# Altium footprint library ecoVENTV_v1.1.PcbLib: 36 footprints (part 1 of 3)
Each footprint in its own frame and in the unit in brackets; x right, y up, seen from the top. Pads: shape width x height; smd on the part's side, far side on the other; paste and mask are expansions set on the pad; w line width, h text height; cw(c..) or ccw(c..) is an arc to the next point about the centre after c.
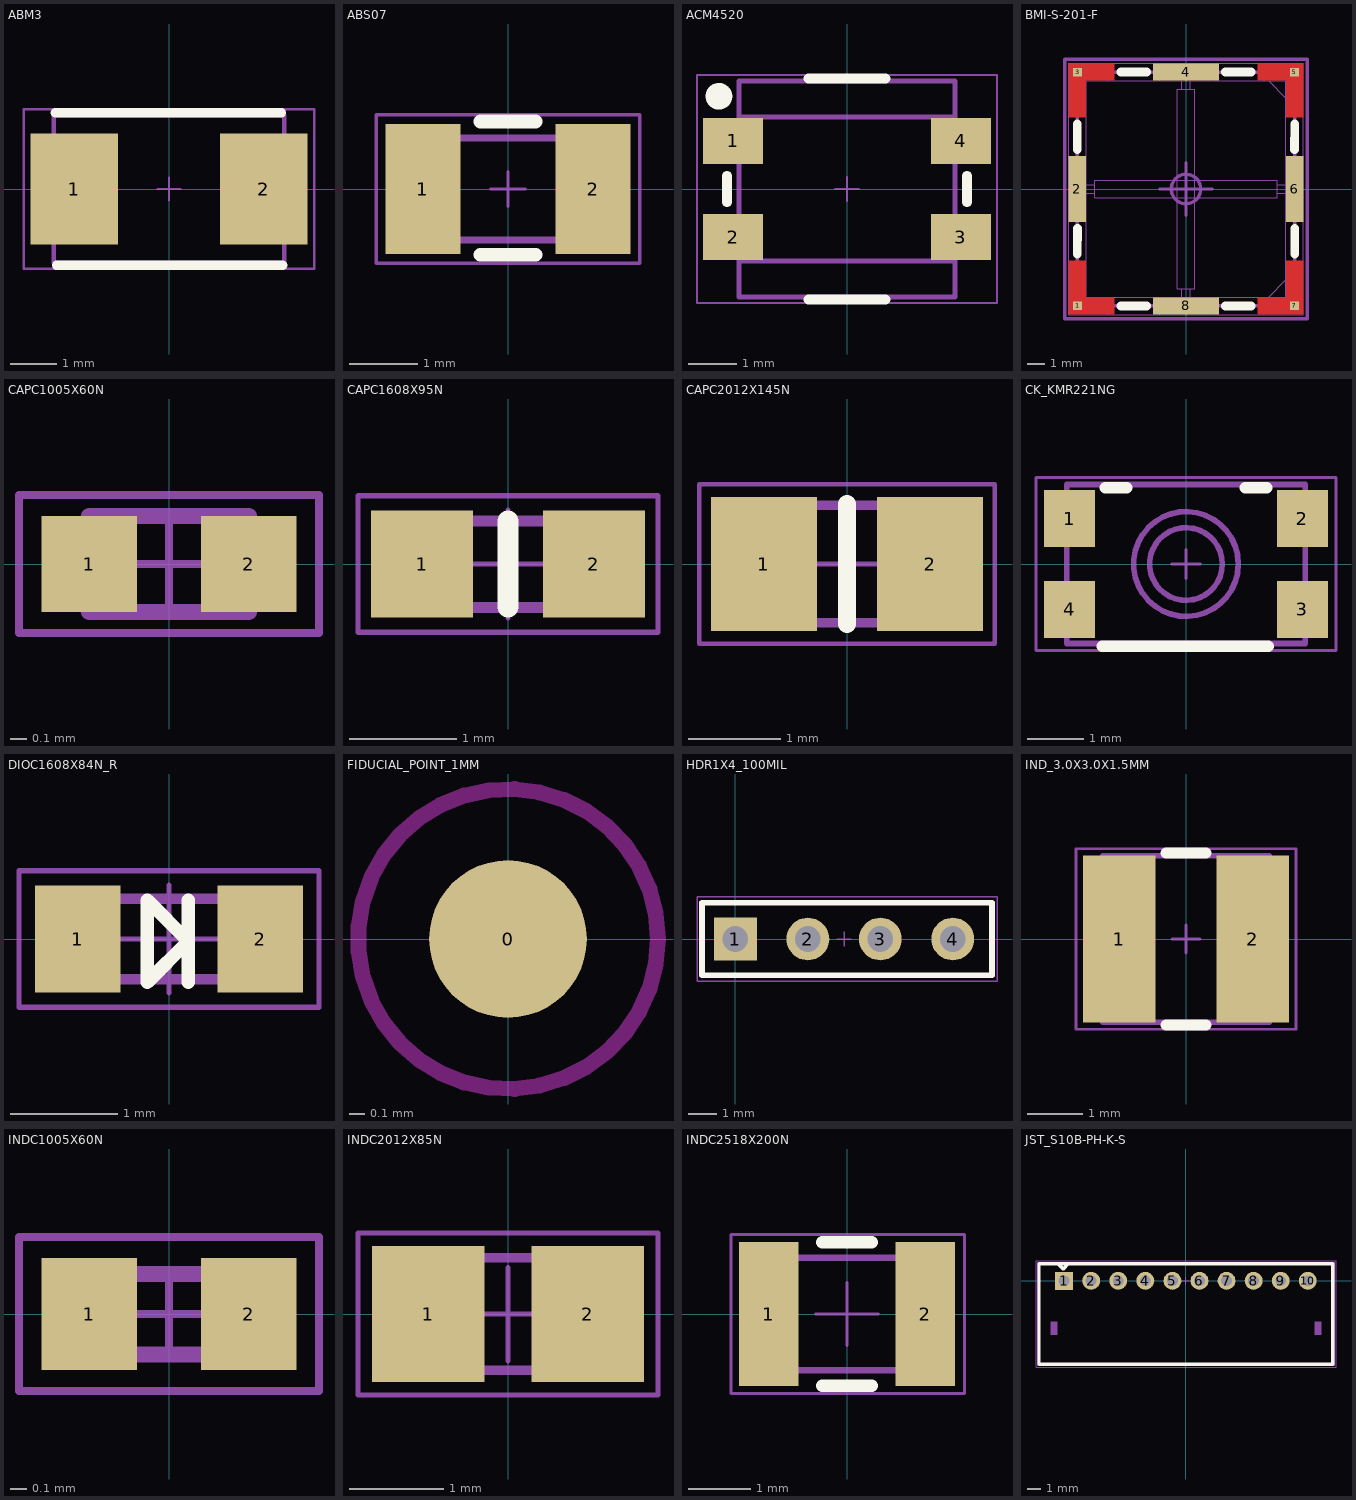
[diagram p0: the footprints below, top view; thin cyan lines are the x and y axes]

## ABM3 [mm] "Quartz, SM; Body 5.0 x 3.2 mm (LxW)"
height 1.3
pads (2):
  rect 1.9x2.4 smd mask+0.051: 1(-2.05,0) 2(2.05,0)
Top Overlay:
  lines w0.203: -2.464,1.651 2.438,1.651 ; -2.438,-1.651 2.464,-1.651
Mechanical 1:
  lines w0.102: -2.5,-1.6 2.5,-1.6 2.5,1.6 -2.5,1.6 -2.5,-1.6
  text ".Designator" at -0.762,-0.203 h0.51
Mechanical 15:
  lines w0.051: -0.25,0 0.25,0 ; 0,-0.25 0,0.25 ; -3.15,-1.727 -3.15,1.727 3.15,1.727 3.15,-1.727 -3.15,-1.727
3D body: height 1.3, standoff 0, extent -2.6,-1.7 2.6,1.7

## ABS07 [mm] "Quartz, SM; Body 3.2 x 1.5 mm (LxW)"
height 0.9
pads (2):
  rect 1.1x1.9 smd mask+0.051: 1(-1.25,0) 2(1.25,0)
Top Overlay:
  lines w0.203: -0.406,-0.965 0.406,-0.965 ; -0.406,0.991 0.406,0.991
Mechanical 1:
  lines w0.102: -1.6,-0.75 1.6,-0.75 1.6,0.75 -1.6,0.75 -1.6,-0.75
  text ".Designator" at -0.725,-0.125 h0.51
Mechanical 15:
  lines w0.051: -0.25,0 0.25,0 ; 0,-0.25 0,0.25 ; -1.93,-1.092 -1.93,1.092 1.93,1.092 1.93,-1.092 -1.93,-1.092
3D body: height 0.91, standoff 0, extent -1.61,-0.76 1.61,0.76

## ACM4520 [mm] "Common Mode Filter, SM; Body 4.7 x 4.5 mm (LxW)"
height 2
pads (4):
  rect 1.25x0.95 smd mask+0.051: 1(-2.375,1) 2(-2.375,-1) 3(2.375,-1) 4(2.375,1)
Top Overlay:
  circle w0.3: c-2.667,1.93 r0.127
  lines w0.203: -2.5,-0.275 -2.5,0.275 ; -0.8,-2.3 0.8,-2.3 ; -0.8,2.3 0.8,2.3 ; 2.5,-0.275 2.5,0.275
Mechanical 1:
  lines w0.102: -2.25,-1.5 2.25,-1.5 ; -2.25,1.5 2.25,1.5 ; -2.25,-2.25 -2.25,2.25 2.25,2.25 2.25,-2.25 -2.25,-2.25
  text ".Designator" at -0.305,-0.102 h0.51
Mechanical 15:
  lines w0.051: -0.25,0 0.25,0 ; 0,-0.25 0,0.25 ; -3.125,-2.375 3.125,-2.375 3.125,2.375 -3.125,2.375 -3.125,-2.375
3D body: height 2.1, standoff 0, extent -1.935,-1.952 1.95,1.941
3D body: height 2, standoff 0, extent -2.007,-2.256 2.007,2.235
3D body: height 2, standoff 0, extent -2.25,-1.5 2.25,1.5

## BMI-S-201-F [mm] "BOARD SHIELD 13.66MM X 12.70MM FRAME"
height 2.54
pads (8):
  rect 0.5x0.5 smd: 1(-6.239,-6.719) 3(-6.239,6.719) 5(6.239,6.719) 7(6.239,-6.719)
  rect 1x3.8 smd: 2(-6.25,0) 6(6.25,0)
  rect 3.8x1 smd: 4(0,6.73) 8(0,-6.73)
Top Layer:
  rectangle: -6.75,-7.23 -5.75,-4.1
  rectangle: -6.75,-7.23 -4.1,-6.23
  rectangle: -6.75,6.23 -4.1,7.23
  rectangle: -6.75,4.1 -5.75,7.23
  region: 6.75,-6.23 4.1,-6.23 4.1,-7.23 6.75,-7.23
  region: 6.75,-4.1 5.75,-4.1 5.75,-7.23 6.75,-7.23
  region: 6.75,7.23 5.75,7.23 5.75,4.1 6.75,4.1
  region: 6.75,7.23 4.1,7.23 4.1,6.23 6.75,6.23
Top Overlay:
  lines w0.5: -6.253,2.257 -6.252,3.744 ; -6.248,-3.744 -6.247,-2.257 ; -3.744,-6.732 -2.257,-6.733 ; -3.744,6.728 -2.257,6.727 ; 2.257,-6.727 3.744,-6.728 ; 2.257,6.733 3.744,6.732 ; 6.247,2.257 6.248,3.744 ; 6.252,-3.744 6.253,-2.257
Mechanical 1:
  lines w0.03: -6.75,-4.5 -5.75,-4.5 ; -6.75,-1.5 -5.75,-1.5 ; -6.75,1.5 -5.75,1.5 ; -6.75,4.5 -5.75,4.5 ; -5.746,-0.25 -5.246,-0.25 ; -5.746,0.25 -5.246,0.25 ; -4.5,-7.23 -4.5,-6.23 ; -4.5,6.23 -4.5,7.23 ; -1.5,-7.23 -1.5,-6.23 ; -1.5,6.23 -1.5,7.23 ; -0.25,-6.226 -0.25,-5.726 ; -0.25,5.726 -0.25,6.226 ; 0.25,-6.226 0.25,-5.726 ; 0.25,5.726 0.25,6.226 ; 1.5,-7.23 1.5,-6.23 ; 1.5,6.23 1.5,7.23 ; 4.5,-7.23 4.5,-6.23 ; 4.5,6.23 4.5,7.23 ; 5.246,-0.25 5.746,-0.25 ; 5.246,0.25 5.746,0.25 ; 5.75,-4.5 6.75,-4.5 ; 5.75,-1.5 6.75,-1.5 ; 5.75,1.5 6.75,1.5 ; 5.75,4.5 6.75,4.5 ; -0.5,-5.726 0.5,-5.726 0.5,0 ; -0.5,-5.726 -0.5,0 ; -0.5,-5.726 -0.5,-5.726 ; -0.5,0 0.5,0 ; -0.5,0 -0.5,5.726 ; -0.5,5.726 0.5,5.726 0.5,0 ; -0.5,5.726 -0.5,5.726 ; 0,-0.5 0,0.5 ; 0,-0.5 -5.246,-0.5 -5.246,0.5 0,0.5 ; 0,-0.5 0,-0.5 ; 0,-0.5 5.246,-0.5 5.246,0.5 0,0.5 ; 0.5,0 0.5,0 ; 0.5,0 0.5,0 ; 4.749,-6.23 5.749,-6.23 ; 4.749,-6.23 4.749,-6.23 ; 4.749,-6.23 5.749,-5.23 5.749,-6.23 ; 5.749,-6.23 5.749,6.228 ; 5.749,-6.23 -5.75,-6.23 -5.749,-6.229 -5.749,6.228 5.749,6.228 ; 5.749,5.228 4.749,6.228 5.749,6.228 ; 5.749,5.228 5.749,5.228 ; 5.749,5.228 5.749,6.228 ; -6.75,-7.229 -6.75,7.23 -6.749,7.231 6.75,7.231 6.75,-7.229 -6.75,-7.229
  lines w0.2: -6.25,-6.73 -6.25,6.73 6.25,6.73 6.25,-6.73 -6.25,-6.73
Mechanical 15:
  circle w0.2: c0,0 r0.846
  lines w0.2: -1.5,0 1.5,0 ; 0,-1.5 0,1.5 ; -6.987,-7.458 -6.987,7.458 6.987,7.458 6.987,-7.458 -6.987,-7.458
3D body: height 2.54, standoff 0, extent -1.5,-7.23 1.5,-6.23
3D body: height 2.54, standoff 0, extent -6.75,-1.5 -5.75,1.5
3D body: height 2.54, standoff 0, extent 5.75,-1.5 6.75,1.5
3D body: height 2.54, standoff 0, extent -1.5,6.23 1.5,7.23
3D body: height 2.54, standoff 0, extent -6.75,-7.23 -4.5,-4.5
3D body: height 2.54, standoff 0, extent 4.5,-7.23 6.75,-4.5
3D body: height 2.54, standoff 0, extent 4.5,4.5 6.75,7.23
3D body: height 2.54, standoff 0, extent -6.75,4.5 -4.5,7.23
3D body: height 2.54, standoff 0.5, extent -4.5,-7.23 -1.5,-6.23
3D body: height 2.54, standoff 0.5, extent 1.5,-7.23 4.5,-6.23
3D body: height 2.54, standoff 0.5, extent 1.5,6.23 4.5,7.23
3D body: height 2.54, standoff 0.5, extent -4.5,6.23 -1.5,7.23
3D body: height 2.54, standoff 0.5, extent -6.75,1.5 -5.75,4.5
3D body: height 2.54, standoff 0.5, extent -6.75,-4.5 -5.75,-1.5
3D body: height 2.54, standoff 0.5, extent 5.75,1.5 6.75,4.5
3D body: height 2.54, standoff 0.5, extent 5.75,-4.5 6.75,-1.5
3D body: height 2.54, standoff 2.34, extent -2.976,-2.994 3,2.994
3D body: height 2.54, standoff 2.34, extent -0.25,-6.226 0.25,-5.726
3D body: height 2.54, standoff 2.34, extent 5.246,-0.25 5.746,0.25
3D body: height 2.54, standoff 2.34, extent -0.25,5.726 0.25,6.226
3D body: height 2.54, standoff 2.34, extent -0.5,0 0.5,5.726
3D body: height 2.54, standoff 2.34, extent -0.5,-5.726 0.5,0
3D body: height 2.54, standoff 2.34, extent 0,-0.5 5.246,0.5
3D body: height 2.54, standoff 2.34, extent 4.749,-6.23 5.749,-5.23
3D body: height 2.54, standoff 2.34, extent 4.75,5.228 5.75,6.228

## CAPC1005X60N [mm]
height 4.8
pads (2):
  rect 0.6x0.6 smd mask+0.051: 1(-0.5,0) 2(0.5,0)
Mechanical 1:
  lines w0.102: -0.5,-0.3 0.5,-0.3 0.5,0.3 -0.5,0.3 -0.5,-0.3
  text ".Designator" at -0.381,-0.178 h0.25
Mechanical 15:
  lines w0.05: -0.25,0 0.25,0 ; 0,-0.25 0,0.25 ; -0.94,-0.432 0.94,-0.432 0.94,0.432 -0.94,0.432 -0.94,-0.432
3D body: height 0.19, standoff -0.01, extent -0.5,-0.3 0.5,0.3

## CAPC1608X95N [mm]
height 0.8
pads (2):
  rect 0.95x1 smd mask+0.051: 1(-0.8,0) 2(0.8,0)
Top Overlay:
  lines w0.2: 0,-0.4 0,0.4
Mechanical 1:
  lines w0.102: -0.8,-0.406 -0.8,0.4 0.8,0.4 0.8,-0.406 -0.8,-0.406
  text ".Designator" at -0.635,-0.279 h0.51
Mechanical 15:
  lines w0.051: -0.5,0 0.5,0 ; 0,-0.5 0,0.5 ; -1.397,-0.635 -1.397,0.635 1.397,0.635 1.397,-0.635 -1.397,-0.635
3D body: height 0.3, standoff 0, extent -0.8,-0.4 0.8,0.4

## CAPC2012X145N [mm]
pads (2):
  rect 1.15x1.45 smd mask+0.051: 1(-0.9,0) 2(0.9,0)
Top Overlay:
  lines w0.2: 0,-0.65 0,0.65
Mechanical 1:
  lines w0.102: -1.016,-0.635 1.016,-0.635 1.016,0.635 -1.016,0.635 -1.016,-0.635
  text ".Designator" at -0.864,-0.406 h0.51
Mechanical 15:
  lines w0.051: -0.5,0 0.5,0 ; 0,-0.5 0,0.5 ; -1.6,-0.864 1.6,-0.864 1.6,0.864 -1.6,0.864 -1.6,-0.864
3D body: height 0.78, standoff 0, extent -1,-0.625 1,0.625

## CK_KMR221NG [mm]
height 1.9
pads (4):
  rect 0.9x1 smd mask+0.051: 1(-2.05,0.8) 2(2.05,0.8) 3(2.05,-0.8) 4(-2.05,-0.8)
Top Overlay:
  lines w0.203: -1.473,-1.448 1.448,-1.448 ; -1.422,1.346 -1.041,1.346 ; 1.041,1.346 1.422,1.346
Mechanical 1:
  circle w0.102: c0,0 r0.922
  circle w0.102: c0,0 r0.64
  lines w0.102: -2.1,-1.4 -2.1,1.4 2.1,1.4 2.1,-1.4 -2.1,-1.4
  text ".Designator" at -1.194,-1.143 h0.51
Mechanical 15:
  lines w0.051: -0.254,0 0.254,0 ; 0,-0.254 0,0.254 ; -2.642,-1.524 -2.642,1.524 2.642,1.524 2.642,-1.524 -2.642,-1.524
3D body: height 1.9, standoff 0, extent -0.794,-0.798 0.8,0.798
3D body: height 1.4, standoff 1.3, extent -2.1,-1.4 2.1,1.4
3D body: height 1.3, standoff 0, extent -2.1,-1.4 2.1,1.4

## DIOC1608X84N_R [mm]
height 0.75
pads (2):
  rect 0.8x1 smd mask+0.051: 1(-0.85,0) 2(0.85,0)
Top Overlay:
  lines w0.127: 0.18,-0.401 0.18,0.361 ; -0.201,-0.401 0.18,-0.02 -0.201,0.361 -0.201,-0.401
Mechanical 1:
  lines w0.102: 0.575,-0.365 0.575,0.375 ; 0.66,-0.375 0.66,0.37 ; 0.76,-0.37 0.76,0.37 ; -0.8,-0.375 -0.8,0.375 0.8,0.375 0.8,-0.375 -0.8,-0.375
  text ".Designator" at -0.647,-0.229 h0.51
Mechanical 15:
  lines w0.051: -0.5,0 0.5,0 ; 0,-0.5 0,0.5 ; -1.397,-0.635 -1.397,0.635 1.397,0.635 1.397,-0.635 -1.397,-0.635
3D body: height 0.75, standoff 0.25, extent -0.6,-0.375 0.6,0.375
3D body: height 0.25, standoff 0, extent 0.6,-0.375 0.8,0.375
3D body: height 0.25, standoff 0, extent -0.8,-0.375 -0.6,0.375
3D body: height 0.25, standoff 0, extent -0.6,-0.375 0.6,0.375

## FIDUCIAL_POINT_1MM [mm]
pads (1):
  round 1 smd paste-0.5 mask+0.5: 0(0,0)
Top Layer keep-out:
  circle w0.1: c0,0 r0.951

## HDR1X4_100MIL [mm] "Connector; Header; 4 Position"
pads (4):
  rect 1.5x1.5 hole 0.9: 1(0,0)
  round 1.5 hole 0.9: 2(2.54,0) 3(5.08,0) 4(7.62,0)
Top Overlay:
  lines w0.203: -1.168,-1.27 8.992,-1.27 8.992,1.27 -1.168,1.27 -1.168,-1.27
Mechanical 1:
  circle w0.102: c0,0 r0.683
  lines w0.102: -1.168,-1.27 8.992,-1.27 8.992,1.27 -1.168,1.27 -1.168,-1.27
  text ".Designator" at 2.54,0 h0.51
Mechanical 15:
  lines w0.051: 3.556,0 4.064,0 ; 3.81,-0.254 3.81,0.254 ; -1.346,-1.473 -1.346,1.473 9.169,1.473 9.169,-1.473 -1.346,-1.473
3D body: height 8.2, standoff -3, extent -1.17,-1.246 8.99,1.253

## IND_3.0X3.0X1.5MM [mm]
height 1.5
pads (2):
  rect 1.3x3 smd mask+0.051: 1(-1.2,0) 2(1.2,0)
Top Overlay:
  lines w0.203: -0.356,-1.549 0.356,-1.549 ; -0.356,1.549 0.356,1.549
Mechanical 1:
  circle w0.102: c-1,0 r0.224
  lines w0.102: -1.5,-1.5 -1.5,1.5 1.5,1.5 1.5,-1.5 -1.5,-1.5
  text ".Designator" at -0.3,-0.2 h0.51
Mechanical 15:
  lines w0.051: -0.25,0 0.25,0 ; 0,-0.25 0,0.25 ; -1.981,-1.626 -1.981,1.626 1.981,1.626 1.981,-1.626 -1.981,-1.626
3D body: height 1.25, standoff 0, extent 0.85,-1.425 1.425,1.425
3D body: height 1.25, standoff 0, extent -1.425,-1.425 -0.85,1.425
3D body: height 1.25, standoff 0, extent -0.85,-1.5 0.85,1.5
3D body: height 1.5, standoff 1.25, extent -1.5,-1.5 1.5,1.5
3D body: height 0.2, standoff 0, extent -1.5,-1.25 -0.6,1.25
3D body: height 0.2, standoff 0, extent 0.6,-1.25 1.5,1.25

## INDC1005X60N [mm]
pads (2):
  rect 0.6x0.7 smd mask+0.051: 1(-0.5,0) 2(0.5,0)
Mechanical 1:
  lines w0.102: -0.508,-0.254 0.5,-0.254 0.5,0.25 -0.508,0.25 -0.508,-0.254
  text ".Designator" at -0.356,-0.127 h0.25
Mechanical 15:
  lines w0.051: -0.25,0 0.25,0 ; 0,-0.25 0,0.25 ; -0.94,-0.483 0.94,-0.483 0.94,0.483 -0.94,0.483 -0.94,-0.483
3D body: height 0.6, standoff 0, extent -0.5,-0.25 0.5,0.25

## INDC2012X85N [mm]
pads (2):
  rect 1.2x1.45 smd mask+0.051: 1(-0.85,0) 2(0.85,0)
Mechanical 1:
  lines w0.102: -1.016,-0.6 1.016,-0.6 1.016,0.6 -1.016,0.6 -1.016,-0.6
  text ".Designator" at -0.813,-0.356 h0.51
Mechanical 15:
  lines w0.051: -0.5,0 0.5,0 ; 0,-0.5 0,0.5 ; -1.6,-0.864 1.6,-0.864 1.6,0.864 -1.6,0.864 -1.6,-0.864
3D body: height 1.3, standoff 0, extent -1,-0.6 1,0.6

## INDC2518X200N [mm]
height 2
pads (2):
  rect 0.95x2.3 smd mask+0.051: 1(-1.25,0) 2(1.25,0)
Top Overlay:
  lines w0.2: -0.4,-1.15 0.4,-1.15 ; -0.4,1.15 0.4,1.15
Mechanical 1:
  lines w0.102: -1.25,-0.9 -1.25,0.9 1.25,0.9 1.25,-0.9 -1.25,-0.9
  text ".Designator" at -0.635,-0.229 h0.51
Mechanical 15:
  lines w0.05: -0.5,0 0.5,0 ; 0,-0.5 0,0.5 ; -1.854,-1.27 -1.854,1.27 1.88,1.27 1.88,-1.27 -1.854,-1.27
3D body: height 2, standoff 0, extent 0.75,-0.9 1.15,0.9
3D body: height 2, standoff 0, extent -1.15,-0.9 -0.75,0.9
3D body: height 2, standoff 0, extent -0.75,-0.9 0.75,0.9

## JST_S10B-PH-K-S [mm]
height 4.8
pads (10):
  rect 1.321x1.321 hole 0.8 mask+0.051: 1(-9,0)
  round 1.321 hole 0.8 mask+0.051: 2(-7,0) 3(-5,0) 4(-3,0) 5(-1,0) 6(1,0) 7(3,0) 8(5,0) 9(7,0) 10(9,0)
Top Overlay:
  lines w0.254: -9.45,1.25 -9.075,0.875 -8.7,1.25 ; -10.85,-6.15 10.854,-6.15 10.854,1.25 -10.85,1.25 -10.85,-6.15
Mechanical 1:
  circle w0.102: c-9,0 r0.397
  region: 9.5,-3 9.5,-4 10,-4 10,-3
  region: -10,-3 -10,-4 -9.5,-4 -9.5,-3
  lines w0.102: -10.95,-6.25 -10.95,1.35 10.95,1.35 10.95,-6.25 -10.95,-6.25
  text ".Designator" at -2.311,-3.531 h0.51
Mechanical 15:
  lines w0.051: -0.254,0 0.254,0 ; 0,-0.254 0,0.254 ; -11.073,-6.375 11.083,-6.375 11.083,1.473 -11.073,1.473 -11.073,-6.375
3D body: height 4.8, standoff -3.4, extent -10.95,-6.248 10.95,1.352